# EAGLE library part POLOLU_8833 (library scono)
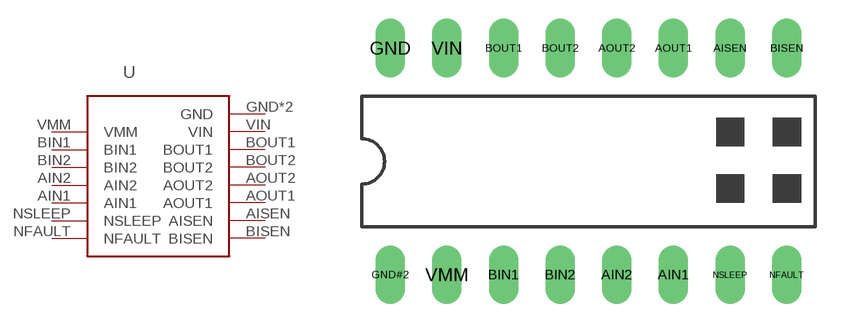
[diagram p7: symbol with the pads of POLOLU_8833; footprint POLOLU_8833]

Designator prefix -

## POLOLU_8833  [POLOLU_8833]
AIN1  AIN1
AIN2  AIN2
AISEN  AISEN
AOUT1  AOUT1
AOUT2  AOUT2
BIN1  BIN1
BIN2  BIN2
BISEN  BISEN
BOUT1  BOUT1
BOUT2  BOUT2
GND  GND
GND#2  GND
NFAULT  NFAULT
NSLEEP  NSLEEP
VIN  VIN
VMM  VMM

## Footprint POLOLU_8833 (pad centres in mm)
drill 0.813 long: AIN1 12.695,-0.052; AIN2 10.155,-0.052; AISEN 15.235,10.108; AOUT1 12.695,10.108; AOUT2 10.155,10.108; BIN1 5.075,-0.052; BIN2 7.615,-0.052; BISEN 17.775,10.108; BOUT1 5.075,10.108; BOUT2 7.615,10.108; GND -0.005,10.108; GND#2 -0.005,-0.052; NFAULT 17.775,-0.052; NSLEEP 15.235,-0.052; VIN 2.535,10.108; VMM 2.535,-0.052